# Altium footprint library 831-87-010-10-001101.PcbLib: 1 footprints
Each footprint in its own frame and in the unit in brackets; x right, y up, seen from the top. Pads: shape width x height; smd on the part's side, far side on the other; paste and mask are expansions set on the pad; w line width, h text height; cw(c..) or ccw(c..) is an arc to the next point about the centre after c.
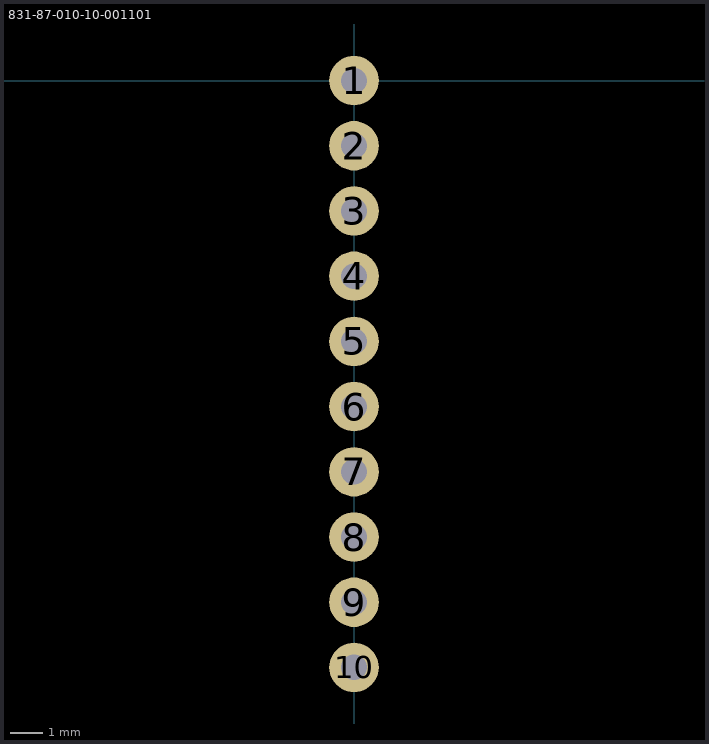
[diagram p0: the footprint, top view; thin cyan lines are the x and y axes]

## 831-87-010-10-001101 [mil]
height 165.35
pads (10):
  round 60 hole 31: 1(0,0) 2(0,-79) 3(0,-158) 4(0,-237) 5(0,-316) 6(0,-395) 7(0,-474) 8(0,-553) 9(0,-632) 10(0,-711)